# EAGLE library part V2153 (library ic-coolaudio)
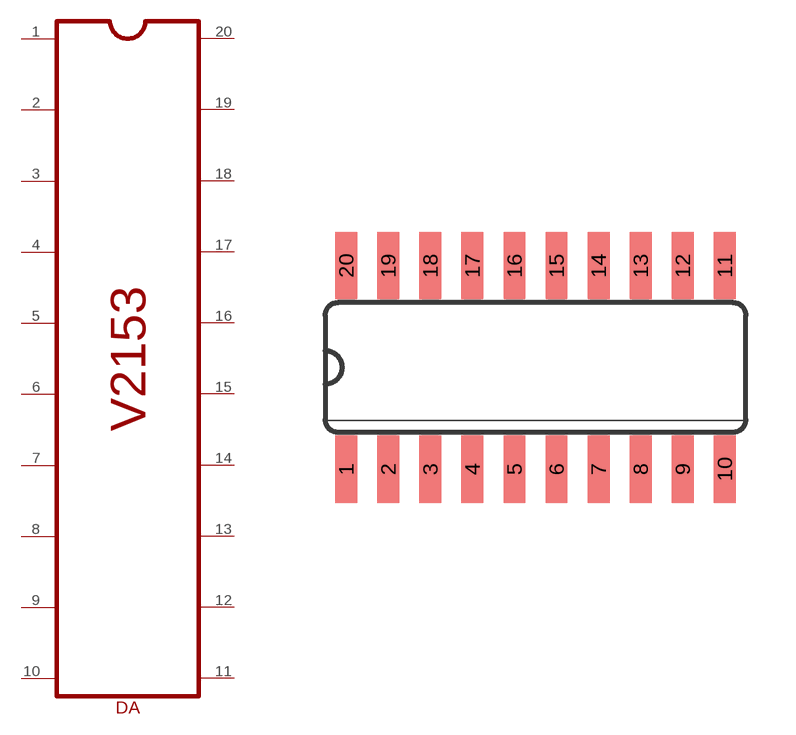
[diagram p0: symbol with the pads of SO-20N; footprint SO-20N]

Designator prefix DA

## V2153M  [SO-20N]
1  1
2  2
3  3
4  4
5  5
6  6
7  7
8  8
9  9
10  10
11  11
12  12
13  13
14  14
15  15
16  16
17  17
18  18
19  19
20  20

## Footprint SO-20N (pad centres in mm)
Small Outline package 150 mil
smd 0.66 x 2.032: 1 -4.445,-3.073; 2 -3.175,-3.073; 3 -1.905,-3.073; 4 -0.635,-3.073; 5 0.635,-3.073; 6 1.905,-3.073; 7 3.175,-3.073; 8 4.445,-3.073; 9 5.715,-3.073; 10 6.985,-3.073; 11 6.985,3.073; 12 5.715,3.073; 13 4.445,3.073; 14 3.175,3.073; 15 1.905,3.073; 16 0.635,3.073; 17 -0.635,3.073; 18 -1.905,3.073; 19 -3.175,3.073; 20 -4.445,3.073